# Altium footprint library Footprints.PcbLib: 2 footprints
Each footprint in its own frame and in the unit in brackets; x right, y up, seen from the top. Pads: shape width x height; smd on the part's side, far side on the other; paste and mask are expansions set on the pad; w line width, h text height; cw(c..) or ccw(c..) is an arc to the next point about the centre after c.
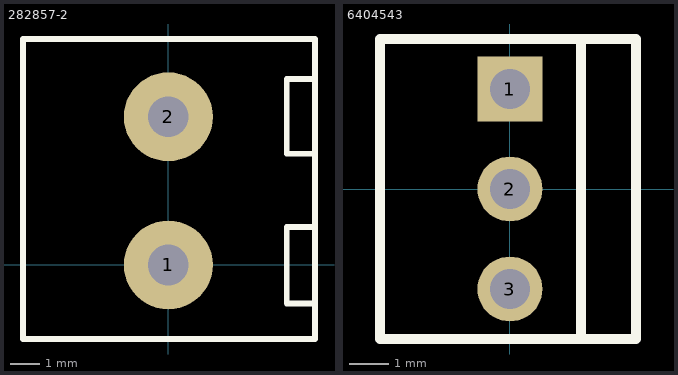
[diagram p0: the footprints below, top view; thin cyan lines are the x and y axes]

## 282857-2 [mil] "TE CONNECTIVITY / BUCHANAN  282857-2  Wire-To-Board Terminal Block, 2, 300 V, 24 A, 30 AWG, 12 AWG, 3 mm²"
pads (2):
  round 120 hole 55: 1(0,0) 2(0,200)
Top Overlay:
  lines w7.87: 195,51 160,51 160,50 160,-50 160,-52 197.85,-52 ; 197.85,150 160,150 160,230 160,250 160,251 197.85,251 ; 197.85,-100 -196,-100 -196,305 197.85,305 197.85,-100 ; 197.85,-100 197.85,-100
3D body: height 751.97, standoff -133.86, extent -195.85,-100 197.85,319.69

## 6404543 [mil] "Headers & Wire Housings POLARIZED HEADER 3P Straight Post tin"
pads (3):
  rect 65x65 hole 40: 1(0,100)
  round 65 hole 40: 2(0,0) 3(0,-100)
Top Overlay:
  lines w10: 70,-150 71,-150 71,150 ; -129.92,-150 125.98,-150 125.98,150 -129.92,150 -129.92,-150
3D body: height 395, standoff -140, extent -130,-150 125,150